# Altium footprint library L_IHLP.PcbLib: 1 footprints
Each footprint in its own frame and in the unit in brackets; x right, y up, seen from the top. Pads: shape width x height; smd on the part's side, far side on the other; paste and mask are expansions set on the pad; w line width, h text height; cw(c..) or ccw(c..) is an arc to the next point about the centre after c.
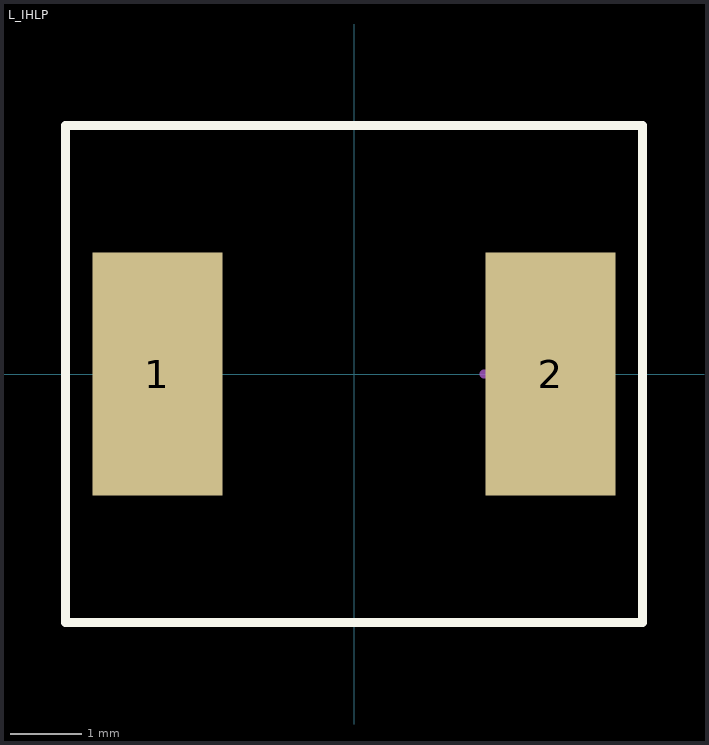
[diagram p0: the footprint, top view; thin cyan lines are the x and y axes]

## L_IHLP [mm] "Footprint para IHLP2525CZER3R3M11"
height 10
pads (2):
  rect 1.83x3.43 smd: 1(-2.77,0) 2(2.77,0)
Top Overlay:
  lines w0.127: -4.07,-3.5 4.07,-3.5 4.07,3.5 -4.07,3.5 -4.07,-3.5
Mechanical 15:
  lines w0.127: 1.83,0 2.83,0 ; 2.33,-0.5 2.33,0.5
3D body: height 1.4, standoff 0, extent -2.438,-2.362 2.362,2.438